# EAGLE library part DAC8565 (library zephod-components)
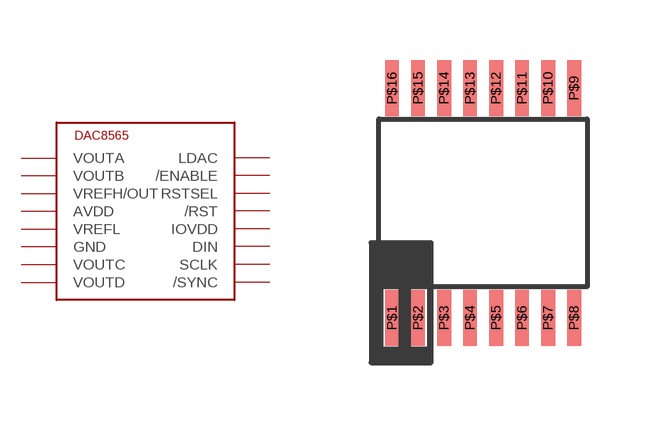
[diagram p19: symbol with the pads of TSSOP-16; footprint TSSOP-16]

Designator prefix IC

## DAC8565  [TSSOP-16]
P$1  VOUTA
P$2  VOUTB
P$3  VREFH/OUT
P$4  AVDD
P$5  VREFL
P$6  GND
P$7  VOUTC
P$8  VOUTD
P$9  /SYNC
P$10  SCLK
P$11  DIN
P$12  IOVDD
P$13  /RST
P$14  RSTSEL
P$15  /ENABLE
P$16  LDAC

## Footprint TSSOP-16 (pad centres in mm)
smd 0.35 x 1.4: P$1 -2.275,-2.875; P$2 -1.625,-2.875; P$3 -0.975,-2.875; P$4 -0.325,-2.875; P$5 0.325,-2.875; P$6 0.975,-2.875; P$7 1.625,-2.875; P$8 2.275,-2.875; P$9 2.275,2.875; P$10 1.625,2.875; P$11 0.975,2.875; P$12 0.325,2.875; P$13 -0.325,2.875; P$14 -0.975,2.875; P$15 -1.625,2.875; P$16 -2.275,2.875